# Altium footprint library PcbLib1.PcbLib: 10 footprints
Each footprint in its own frame and in the unit in brackets; x right, y up, seen from the top. Pads: shape width x height; smd on the part's side, far side on the other; paste and mask are expansions set on the pad; w line width, h text height; cw(c..) or ccw(c..) is an arc to the next point about the centre after c.
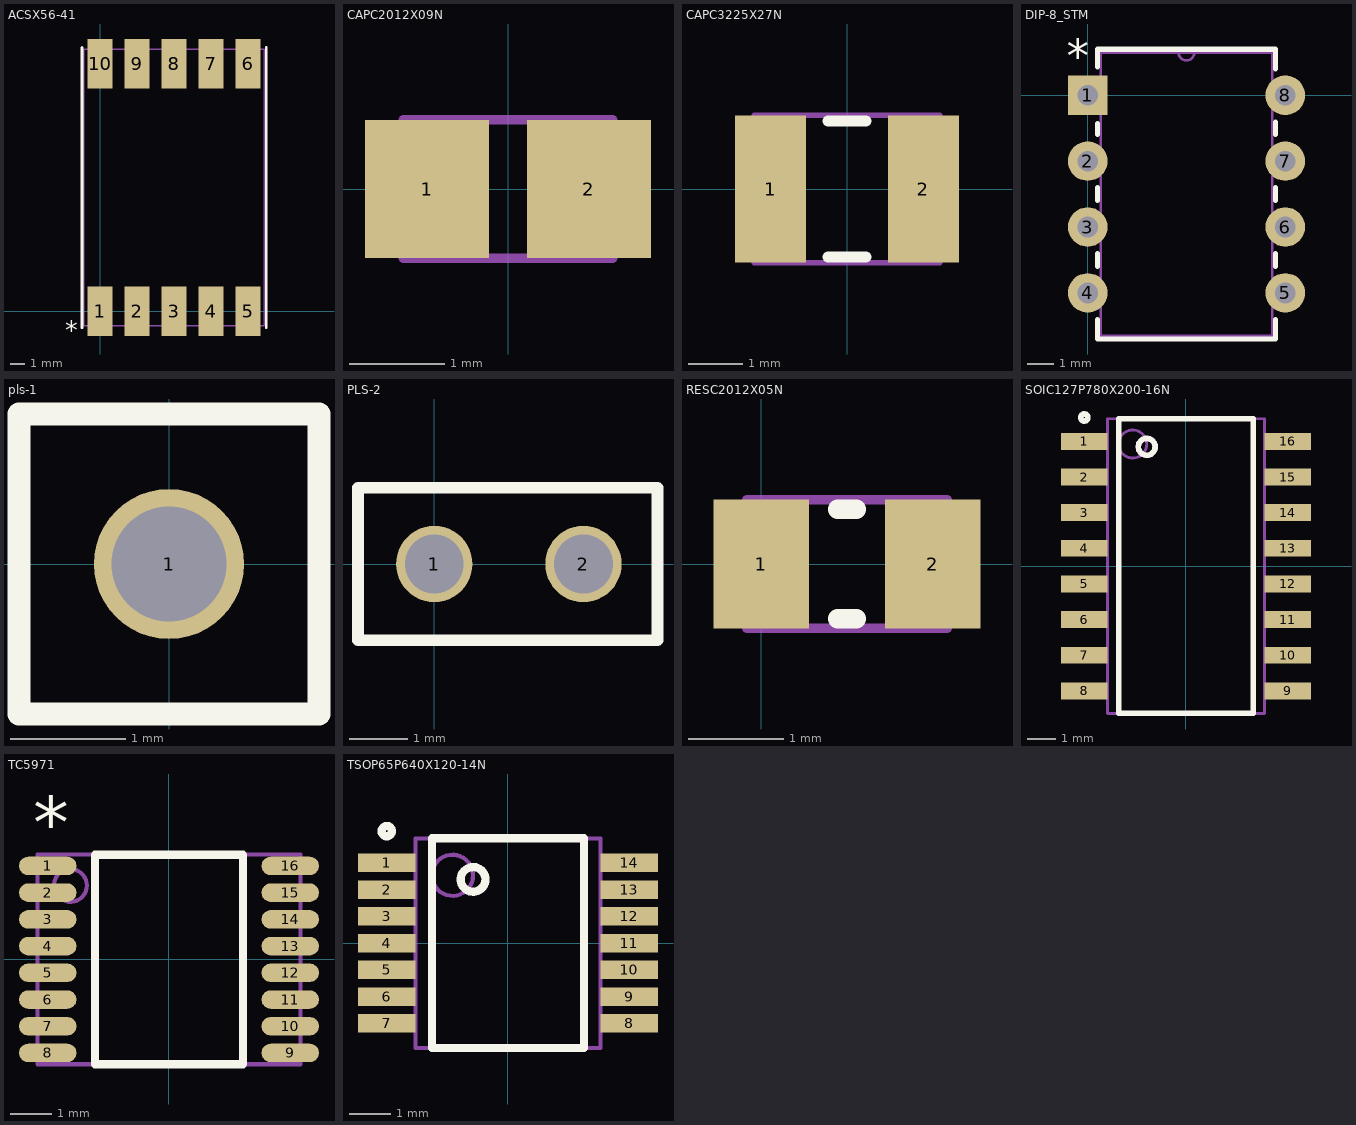
[diagram p0: the footprints below, top view; thin cyan lines are the x and y axes]

## ACSX56-41 [mm] "DISPLAY 7SEG 0.56\" SGL BLU 10SMD"
pads (10):
  rect 1.7x3.4 smd: 1(0,0) 2(2.54,0) 3(5.08,0) 4(7.62,0) 5(10.16,0) 6(10.16,17) 7(7.62,17) 8(5.08,17) 9(2.54,17) 10(0,17)
Top Overlay:
  lines w0.2: -1.247,-1.127 -1.247,18.127 ; 11.407,-1.127 11.407,18.127
  text "*" at -2.4,-1.9 h1.27
Top Assembly:
  circle w0.1: c0,0 r0.4
  lines w0.1: -1.12,-1 -1.12,18 11.28,18 11.28,-1 -1.12,-1
3D body "ACSX56-41.STEP": height 3.75, standoff -0.05, extent -1.12,-1 11.28,18

## CAPC2012X09N [mm] "Chip Capacitor, 2-Leads, Body 2.00x1.25mm, IPC Medium Density"
height 0.88
pads (2):
  rect 1.3x1.45 smd: 1(-0.85,0) 2(0.85,0)
Top Assembly:
  lines w0.1: -1.1,-0.725 1.1,-0.725 1.1,0.725 -1.1,0.725 -1.1,-0.725
3D body "CAPC2012X09N.step": height 0.88, standoff 0, extent -1.1,-0.725 1.1,0.725

## CAPC3225X27N [mm] "Chip Capacitor, 2-Leads, Body 3.20x2.50mm, IPC Medium Density"
height 2.7
pads (2):
  rect 1.3x2.7 smd: 1(-1.4,0) 2(1.4,0)
Top Overlay:
  lines w0.2: -0.35,-1.25 0.35,-1.25 ; -0.35,1.25 0.35,1.25
Top Assembly:
  lines w0.1: -1.7,-1.35 1.7,-1.35 1.7,1.35 -1.7,1.35 -1.7,-1.35
3D body "CAPC3225X27N.step": height 2.7, standoff 0, extent -1.7,-1.35 1.7,1.35

## DIP-8_STM [mil]
pads (8):
  rect 60x60 hole 31.5 mask+0: 1(0,0)
  round 60 hole 31.5 mask+0: 2(0,-100) 3(0,-200) 4(0,-300) 5(300,-300) 6(300,-200) 7(300,-100) 8(300,0)
Top Overlay:
  lines w7.87: 15,-340.41 15,-370 285,-370 285,-340.41 ; 15,-259.59 15,-240.41 ; 15,-159.59 15,-140.41 ; 15,-59.59 15,-43.1 ; 15,43.1 15,70 285,70 285,40.41 ; 285,-259.59 285,-240.41 ; 285,-159.59 285,-140.41 ; 285,-59.59 285,-40.41
  text "*" at -31.5,35.43 h50
Top Assembly:
  lines w1: 20,-316 20,-284 ; 20,-216 20,-184 ; 20,-116 20,-84 ; 20,-16 20,16 ; 280,-316 280,-284 ; 280,-216 280,-184 ; 280,-116 280,-84 ; 280,-16 280,16
  lines w3.94: 20,-316 -16,-316 -16,-284 20,-284 ; 20,-216 -16,-216 -16,-184 20,-184 ; 20,-116 -16,-116 -16,-84 20,-84 ; 20,-16 -16,-16 -16,16 20,16 ; 138,65 ccw(c150,65) 162,65 ; 280,-316 316,-316 316,-284 280,-284 ; 280,-216 316,-216 316,-184 280,-184 ; 280,-116 316,-116 316,-84 280,-84 ; 280,-16 316,-16 316,16 280,16 ; 20,-365 20,65 280,65 280,-365 20,-365
  text "*" at 17.5,-25 h50
3D body "DIP-8_STM.step": height 205.12, standoff -100, extent -9.92,-364.99 310.08,65

## pls-1 [mm] "CONN HEADER VERT 1POS"
pads (1):
  round 1.3 hole 1: 1(0,0)
Top Overlay:
  lines w0.2: -1.3,-1.3 -1.3,1.3 1.3,1.3 1.3,-1.3 -1.3,-1.3
Top Assembly:
  lines w0.1: -1.27,-1.27 1.27,-1.27 1.27,1.27 -1.27,1.27 -1.27,-1.27
3D body "61300111121.stp": height 8.54, standoff -3, extent -1.27,-1.27 1.27,1.27

## PLS-2 [mm] "CONN HEADER VERT 2POS 2.54MM"
pads (2):
  round 1.3 hole 1: 1(0,0) 2(2.54,0)
Top Overlay:
  lines w0.2: -1.3,-1.3 -1.3,1.3 3.8,1.3 3.8,-1.3 -1.3,-1.3
Top Assembly:
  lines w0.1: -1.27,-1.27 3.81,-1.27 3.81,1.27 -1.27,1.27 -1.27,-1.27
3D body "61300211121.stp": height 8.54, standoff -3, extent -1.27,-1.27 3.81,1.27

## RESC2012X05N [mm] "Chip Resistor, 2-Leads, Body 2.00x1.25mm, IPC Medium Density"
height 0.5
pads (2):
  rect 1x1.35 smd: 1(0,0) 2(1.8,0)
Top Overlay:
  lines w0.2: 0.8,-0.575 1,-0.575 ; 0.8,0.575 1,0.575
Top Assembly:
  lines w0.1: -0.15,-0.675 -0.15,0.675 1.95,0.675 1.95,-0.675 -0.15,-0.675
3D body "RESC2012X05N.step": height 0.5, standoff 0, extent -0.15,-0.675 1.95,0.675

## SOIC127P780X200-16N [mm] "SOIC, 16-Leads, Body 10.20x5.30mm, Pitch 1.27mm, IPC Medium Density"
height 2
pads (16):
  rect 1.65x0.6 smd: 1(-3.625,4.445) 2(-3.625,3.175) 3(-3.625,1.905) 4(-3.625,0.635) 5(-3.625,-0.635) 6(-3.625,-1.905) 7(-3.625,-3.175) 8(-3.625,-4.445) 9(3.625,-4.445) 10(3.625,-3.175) 11(3.625,-1.905) 12(3.625,-0.635) 13(3.625,0.635) 14(3.625,1.905) 15(3.625,3.175) 16(3.625,4.445)
Top Overlay:
  circle w0.2: c-1.4,4.25 r0.3
  circle w0.2: c-3.625,5.295 r0.125
  lines w0.2: -2.4,-5.25 2.4,-5.25 2.4,5.25 -2.4,5.25 -2.4,-5.25
Top Assembly:
  circle w0.1: c-1.9,4.35 r0.5
  lines w0.1: -2.8,-5.25 2.8,-5.25 2.8,5.25 -2.8,5.25 -2.8,-5.25
3D body "SOIC127P780X200-16N.step": height 2, standoff 0, extent -3.9,-5.25 3.9,5.25

## TC5971 [mm]
height 1.2
pads (16):
  oval 1.4x0.45 smd: 1(-2.95,2.275) 2(-2.95,1.625) 3(-2.95,0.975) 4(-2.95,0.325) 5(-2.95,-0.325) 6(-2.95,-0.975) 7(-2.95,-1.625) 8(-2.95,-2.275) 9(2.95,-2.275) 10(2.95,-1.625) 11(2.95,-0.975) 12(2.95,-0.325) 13(2.95,0.325) 14(2.95,0.975) 15(2.95,1.625) 16(2.95,2.275)
Top Overlay:
  lines w0.2: -1.8,-2.55 -1.8,2.55 1.8,2.55 1.8,-2.55 -1.8,-2.55
  text "*" at -3.3,2.7 h1.27
Top Assembly:
  circle w0.1: c-2.4,1.8 r0.4
  lines w0.1: -3.2,-2.55 -3.2,2.55 3.2,2.55 3.2,-2.55 -3.2,-2.55
3D body "CD4511B.step": height 1.2, standoff 0, extent -3.2,-2.55 3.2,2.55

## TSOP65P640X120-14N [mm] "TSOP, 14-Leads, Body 5.00x4.40mm, Pitch 0.65mm, IPC Medium Density"
height 1.2
pads (14):
  rect 1.4x0.45 smd: 1(-2.95,1.95) 2(-2.95,1.3) 3(-2.95,0.65) 4(-2.95,0) 5(-2.95,-0.65) 6(-2.95,-1.3) 7(-2.95,-1.95) 8(2.95,-1.95) 9(2.95,-1.3) 10(2.95,-0.65) 11(2.95,0) 12(2.95,0.65) 13(2.95,1.3) 14(2.95,1.95)
Top Overlay:
  circle w0.2: c-0.85,1.55 r0.3
  circle w0.2: c-2.95,2.725 r0.125
  lines w0.2: -1.85,-2.55 1.85,-2.55 1.85,2.55 -1.85,2.55 -1.85,-2.55
Top Assembly:
  circle w0.1: c-1.35,1.65 r0.5
  lines w0.1: -2.25,-2.55 2.25,-2.55 2.25,2.55 -2.25,2.55 -2.25,-2.55
3D body "TSOP65P640X120-14N.step": height 1.2, standoff 0, extent -3.2,-2.55 3.2,2.55